# EAGLE library part B11B-EH-A (library con-jst-eh)
HEADER
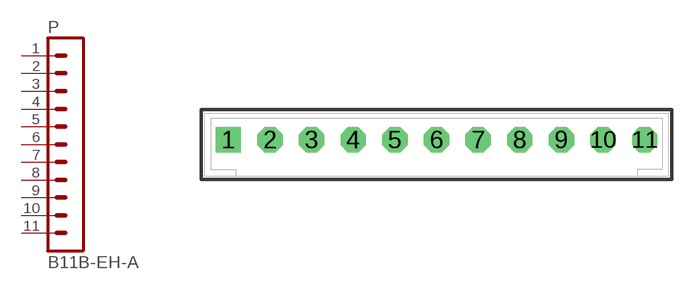
[diagram p5: symbol with the pads of B11B-EH-A; footprint B11B-EH-A]

Designator prefix P

## B11B-EH-A  [B11B-EH-A]
1  1  pas
2  2  pas
3  3  pas
4  4  pas
5  5  pas
6  6  pas
7  7  pas
8  8  pas
9  9  pas
10  10  pas
11  11  pas

## Footprint B11B-EH-A (pad centres in mm)
HEADER
drill 1.016 square: 1 -12.5,0
drill 1.016 octagon: 2 -10,0; 3 -7.5,0; 4 -5,0; 5 -2.5,0; 6 0,0; 7 2.5,0; 8 5,0; 9 7.5,0; 10 10,0; 11 12.5,0